# EAGLE library part DUAL_OP_AMP (library pimoroni-ics)
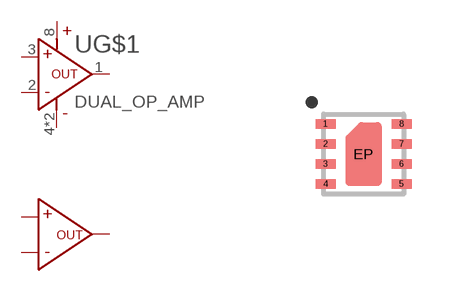
[diagram p76: symbol with the pads of DFN-8-2X2; footprint DFN-8-2X2]

Designator prefix U; gates G$1=OPAMP G$2=OPAMP_NO_POWER

## DUAL_OP_AMP  [DFN-8-2X2]
1  G$1:OUT
2  G$1:-
3  G$1:+
4  G$1:GND
5  G$2:+
6  G$2:-
7  G$2:OUT
8  G$1:VCC
EP  G$1:GND

## Footprint DFN-8-2X2 (pad centres in mm)
smd 0.5 x 0.23: 1 -0.95,0.75; 2 -0.95,0.25; 3 -0.95,-0.25; 4 -0.95,-0.75; 5 0.95,-0.75; 6 0.95,-0.25; 7 0.95,0.25; 8 0.95,0.75
smd 0.4 x 0.4: EP 0,0